# Altium schematic symbol library Schlib2.SchLib: 2 symbols
Pins are listed as number, name and electrical type; pins without a type are passive.

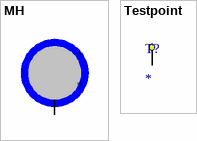
[diagram p0: symbols MH to Testpoint]

## MH
designator *
footprint MH
footprint Model Name (Footprint not found)
pins: MH?

## Testpoint
designator T?
footprint Testpoint_FP
pins: TP? Testpoint